# Altium footprint library XHCLB_22.11.30.PcbLib: 90 footprints (part 1 of 6)
Each footprint in its own frame and in the unit in brackets; x right, y up, seen from the top. Pads: shape width x height; smd on the part's side, far side on the other; paste and mask are expansions set on the pad; w line width, h text height; cw(c..) or ccw(c..) is an arc to the next point about the centre after c.
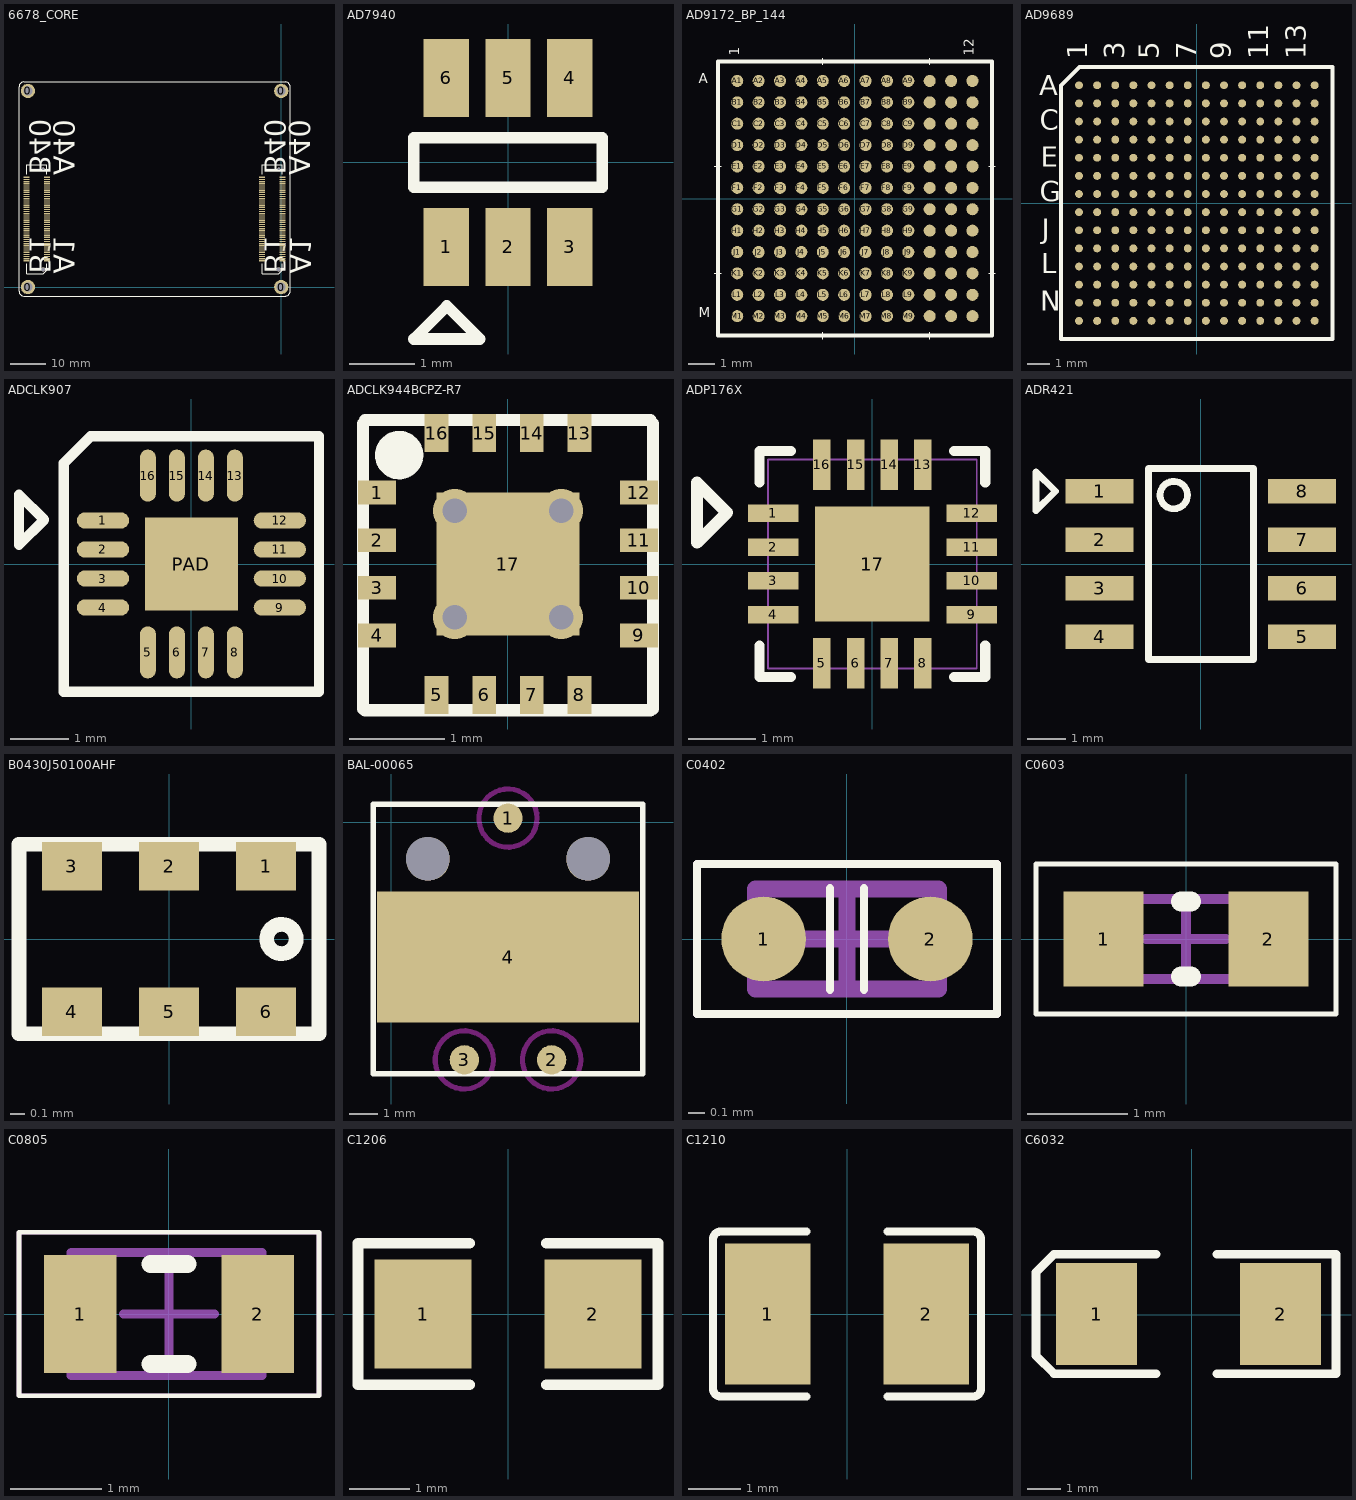
[diagram p0: the footprints below, top view; thin cyan lines are the x and y axes]

## 6678_CORE [mm]
pads (168):
  round 4 hole 2.5: 0(-71,55) 0(-71,0) 0(0,0) 0(0,55)
  rect 1.7x0.35 smd: A1_1(-65.65,7.365) A1_2(-65.65,7.965) A1_3(-65.65,8.565) A1_4(-65.65,9.165) A1_5(-65.65,9.765) A1_6(-65.65,10.365) A1_7(-65.65,10.965) A1_8(-65.65,11.565) A1_9(-65.65,12.165) A1_10(-65.65,12.765) A1_11(-65.65,13.365) A1_12(-65.65,13.965) A1_13(-65.65,14.565) A1_14(-65.65,15.165) A1_15(-65.65,15.765) A1_16(-65.65,16.365) A1_17(-65.65,16.965) A1_18(-65.65,17.565) A1_19(-65.65,18.165) A1_20(-65.65,18.765) A1_21(-65.65,19.365) A1_22(-65.65,19.965) A1_23(-65.65,20.565) A1_24(-65.65,21.165) A1_25(-65.65,21.765) A1_26(-65.65,22.365) A1_27(-65.65,22.965) A1_28(-65.65,23.565) A1_29(-65.65,24.165) A1_30(-65.65,24.765) A1_31(-65.65,25.365) A1_32(-65.65,25.965) A1_33(-65.65,26.565) A1_34(-65.65,27.165) A1_35(-65.65,27.765) A1_36(-65.65,28.365) A1_37(-65.65,28.965) A1_38(-65.65,29.565) A1_39(-65.65,30.165) A1_40(-65.65,30.765) A2_1(0.35,7.365) A2_2(0.35,7.965) A2_3(0.35,8.565) A2_4(0.35,9.165) A2_5(0.35,9.765) A2_6(0.35,10.365) A2_7(0.35,10.965) A2_8(0.35,11.565) A2_9(0.35,12.165) A2_10(0.35,12.765) A2_11(0.35,13.365) A2_12(0.35,13.965) A2_13(0.35,14.565) A2_14(0.35,15.165) A2_15(0.35,15.765) A2_16(0.35,16.365) A2_17(0.35,16.965) A2_18(0.35,17.565) A2_19(0.35,18.165) A2_20(0.35,18.765) A2_21(0.35,19.365) A2_22(0.35,19.965) A2_23(0.35,20.565) A2_24(0.35,21.165) A2_25(0.35,21.765) A2_26(0.35,22.365) A2_27(0.35,22.965) A2_28(0.35,23.565) A2_29(0.35,24.165) A2_30(0.35,24.765) A2_31(0.35,25.365) A2_32(0.35,25.965) A2_33(0.35,26.565) A2_34(0.35,27.165) A2_35(0.35,27.765) A2_36(0.35,28.365) A2_37(0.35,28.965) A2_38(0.35,29.565) A2_39(0.35,30.165) A2_40(0.35,30.765) B1_1(-71.35,7.365) B1_2(-71.35,7.965) B1_3(-71.35,8.565) B1_4(-71.35,9.165) B1_5(-71.35,9.765) B1_6(-71.35,10.365) B1_7(-71.35,10.965) B1_8(-71.35,11.565) B1_9(-71.35,12.165) B1_10(-71.35,12.765) B1_11(-71.35,13.365) B1_12(-71.35,13.965) B1_13(-71.35,14.565) B1_14(-71.35,15.165) B1_15(-71.35,15.765) B1_16(-71.35,16.365) B1_17(-71.35,16.965) B1_18(-71.35,17.565) B1_19(-71.35,18.165) B1_20(-71.35,18.765) B1_21(-71.35,19.365) B1_22(-71.35,19.965) B1_23(-71.35,20.565) B1_24(-71.35,21.165) B1_25(-71.35,21.765) B1_26(-71.35,22.365) B1_27(-71.35,22.965) B1_28(-71.35,23.565) B1_29(-71.35,24.165) B1_30(-71.35,24.765) B1_31(-71.35,25.365) B1_32(-71.35,25.965) B1_33(-71.35,26.565) B1_34(-71.35,27.165) B1_35(-71.35,27.765) B1_36(-71.35,28.365) B1_37(-71.35,28.965) B1_38(-71.35,29.565) B1_39(-71.35,30.165) B1_40(-71.35,30.765) B2_1(-5.35,7.365) B2_2(-5.35,7.965) B2_3(-5.35,8.565) B2_4(-5.35,9.165) B2_5(-5.35,9.765) B2_6(-5.35,10.365) B2_7(-5.35,10.965) B2_8(-5.35,11.565) B2_9(-5.35,12.165) B2_10(-5.35,12.765) B2_11(-5.35,13.365) B2_12(-5.35,13.965) B2_13(-5.35,14.565) B2_14(-5.35,15.165) B2_15(-5.35,15.765) B2_16(-5.35,16.365) B2_17(-5.35,16.965) B2_18(-5.35,17.565) B2_19(-5.35,18.165) B2_20(-5.35,18.765) B2_21(-5.35,19.365) B2_22(-5.35,19.965) B2_23(-5.35,20.565) B2_24(-5.35,21.165) B2_25(-5.35,21.765) B2_26(-5.35,22.365) B2_27(-5.35,22.965) B2_28(-5.35,23.565) B2_29(-5.35,24.165) B2_30(-5.35,24.765) B2_31(-5.35,25.365) B2_32(-5.35,25.965) B2_33(-5.35,26.565) B2_34(-5.35,27.165) B2_35(-5.35,27.765) B2_36(-5.35,28.365) B2_37(-5.35,28.965) B2_38(-5.35,29.565) B2_39(-5.35,30.165) B2_40(-5.35,30.765)
  round 1.1 hole 1.1: ZH-C1(-66.7,4.965) ZH-C1(-0.7,4.965)
  round 0.7 hole 0.7: ZH-C2(-66.7,33.165) ZH-C2(-0.7,33.165)
Top Overlay:
  lines w0.254: -71.3,6.565 -71.3,3.765 -66.7,3.765 -65.7,4.765 -65.7,6.565 ; -71.3,31.565 -71.3,34.365 -65.7,34.365 -65.7,31.565 ; -5.3,6.565 -5.3,3.765 -0.7,3.765 0.3,4.765 0.3,6.565 ; -5.3,31.565 -5.3,34.365 0.3,34.365 0.3,31.565 ; -73.5,-1.23 ccw(c-72.23,-1.23) -72.23,-2.5 1.23,-2.5 ccw(c1.23,-1.23) 2.5,-1.23 2.5,56.23 ccw(c1.23,56.23) 1.23,57.5 -72.23,57.5 ccw(c-72.23,56.23) -73.5,56.23 -73.5,55.521 -73.5,-1.23
  text "A40" at 0.319,31.393 h10
  text "B40" at -6.513,31.513 h10
  text "A1" at -65.7,3.765 h10
  text "B1" at -72.513,3.774 h10
  text "B40" at -72.513,31.513 h10
  text "A40" at -65.682,31.393 h10
  text "B1" at -6.513,3.774 h10
  text "A1" at 0.6,3.765 h10

## AD7940 [mm]
pads (6):
  rect 0.7x1.2 smd: 1(-0.95,-1.3) 2(0,-1.3) 3(0.95,-1.3) 4(0.95,1.3) 5(0,1.3) 6(-0.95,1.3)
Top Overlay:
  lines w0.178: -1.45,-0.381 -1.45,0.381 1.45,0.381 1.45,-0.381 -1.45,-0.381 ; -1.448,-2.718 -0.432,-2.718 -0.94,-2.21 -1.448,-2.718

## AD9172_BP_144 [mm]
pads (144):
  round 0.45 smd: A1(-4.4,4.4) A2(-3.6,4.4) A3(-2.8,4.4) A4(-2,4.4) A5(-1.2,4.4) A6(-0.4,4.4) A7(0.4,4.4) A8(1.2,4.4) A9(2,4.4) A10(2.8,4.4) A11(3.6,4.4) A12(4.4,4.4) B1(-4.4,3.6) B2(-3.6,3.6) B3(-2.8,3.6) B4(-2,3.6) B5(-1.2,3.6) B6(-0.4,3.6) B7(0.4,3.6) B8(1.2,3.6) B9(2,3.6) B10(2.8,3.6) B11(3.6,3.6) B12(4.4,3.6) C1(-4.4,2.8) C2(-3.6,2.8) C3(-2.8,2.8) C4(-2,2.8) C5(-1.2,2.8) C6(-0.4,2.8) C7(0.4,2.8) C8(1.2,2.8) C9(2,2.8) C10(2.8,2.8) C11(3.6,2.8) C12(4.4,2.8) D1(-4.4,2) D2(-3.6,2) D3(-2.8,2) D4(-2,2) D5(-1.2,2) D6(-0.4,2) D7(0.4,2) D8(1.2,2) D9(2,2) D10(2.8,2) D11(3.6,2) D12(4.4,2) E1(-4.4,1.2) E2(-3.6,1.2) E3(-2.8,1.2) E4(-2,1.2) E5(-1.2,1.2) E6(-0.4,1.2) E7(0.4,1.2) E8(1.2,1.2) E9(2,1.2) E10(2.8,1.2) E11(3.6,1.2) E12(4.4,1.2) F1(-4.4,0.4) F2(-3.6,0.4) F3(-2.8,0.4) F4(-2,0.4) F5(-1.2,0.4) F6(-0.4,0.4) F7(0.4,0.4) F8(1.2,0.4) F9(2,0.4) F10(2.8,0.4) F11(3.6,0.4) F12(4.4,0.4) G1(-4.4,-0.4) G2(-3.6,-0.4) G3(-2.8,-0.4) G4(-2,-0.4) G5(-1.2,-0.4) G6(-0.4,-0.4) G7(0.4,-0.4) G8(1.2,-0.4) G9(2,-0.4) G10(2.8,-0.4) G11(3.6,-0.4) G12(4.4,-0.4) H1(-4.4,-1.2) H2(-3.6,-1.2) H3(-2.8,-1.2) H4(-2,-1.2) H5(-1.2,-1.2) H6(-0.4,-1.2) H7(0.4,-1.2) H8(1.2,-1.2) H9(2,-1.2) H10(2.8,-1.2) H11(3.6,-1.2) H12(4.4,-1.2) J1(-4.4,-2) J2(-3.6,-2) J3(-2.8,-2) J4(-2,-2) J5(-1.2,-2) J6(-0.4,-2) J7(0.4,-2) J8(1.2,-2) J9(2,-2) J10(2.8,-2) J11(3.6,-2) J12(4.4,-2) K1(-4.4,-2.8) K2(-3.6,-2.8) K3(-2.8,-2.8) K4(-2,-2.8) K5(-1.2,-2.8) K6(-0.4,-2.8) K7(0.4,-2.8) K8(1.2,-2.8) K9(2,-2.8) K10(2.8,-2.8) K11(3.6,-2.8) K12(4.4,-2.8) L1(-4.4,-3.6) L2(-3.6,-3.6) L3(-2.8,-3.6) L4(-2,-3.6) L5(-1.2,-3.6) L6(-0.4,-3.6) L7(0.4,-3.6) L8(1.2,-3.6) L9(2,-3.6) L10(2.8,-3.6) L11(3.6,-3.6) L12(4.4,-3.6) M1(-4.4,-4.4) M2(-3.6,-4.4) M3(-2.8,-4.4) M4(-2,-4.4) M5(-1.2,-4.4) M6(-0.4,-4.4) M7(0.4,-4.4) M8(1.2,-4.4) M9(2,-4.4) M10(2.8,-4.4) M11(3.6,-4.4) M12(4.4,-4.4)
Top Overlay:
  lines w0.025: -5.254,-2.8 -5,-2.8 ; -5.254,1.2 -5,1.2 ; -1.2,-5.254 -1.2,-5 ; -1.2,5 -1.2,5.254 ; 2.8,-5.254 2.8,-5 ; 2.8,5 2.8,5.254 ; 5,-2.8 5.254,-2.8 ; 5,1.2 5.254,1.2
  lines w0.152: -5.127,-5.127 -5.127,5.127 5.127,5.127 5.127,-5.127 -5.127,-5.127
  text "12" at 4.572,5.334 h0.64
  text "1" at -4.191,5.334 h0.64
  text "M" at -5.842,-4.572 h0.64
  text "A" at -5.842,4.191 h0.64

## AD9689 [mm]
pads (196):
  round 0.35 smd: A1(-5.2,5.2) A2(-4.4,5.2) A3(-3.6,5.2) A4(-2.8,5.2) A5(-2,5.2) A6(-1.2,5.2) A7(-0.4,5.2) A8(0.4,5.2) A9(1.2,5.2) A10(2,5.2) A11(2.8,5.2) A12(3.6,5.2) A13(4.4,5.2) A14(5.2,5.2) B1(-5.2,4.4) B2(-4.4,4.4) B3(-3.6,4.4) B4(-2.8,4.4) B5(-2,4.4) B6(-1.2,4.4) B7(-0.4,4.4) B8(0.4,4.4) B9(1.2,4.4) B10(2,4.4) B11(2.8,4.4) B12(3.6,4.4) B13(4.4,4.4) B14(5.2,4.4) C1(-5.2,3.6) C2(-4.4,3.6) C3(-3.6,3.6) C4(-2.8,3.6) C5(-2,3.6) C6(-1.2,3.6) C7(-0.4,3.6) C8(0.4,3.6) C9(1.2,3.6) C10(2,3.6) C11(2.8,3.6) C12(3.6,3.6) C13(4.4,3.6) C14(5.2,3.6) D1(-5.2,2.8) D2(-4.4,2.8) D3(-3.6,2.8) D4(-2.8,2.8) D5(-2,2.8) D6(-1.2,2.8) D7(-0.4,2.8) D8(0.4,2.8) D9(1.2,2.8) D10(2,2.8) D11(2.8,2.8) D12(3.6,2.8) D13(4.4,2.8) D14(5.2,2.8) E1(-5.2,2) E2(-4.4,2) E3(-3.6,2) E4(-2.8,2) E5(-2,2) E6(-1.2,2) E7(-0.4,2) E8(0.4,2) E9(1.2,2) E10(2,2) E11(2.8,2) E12(3.6,2) E13(4.4,2) E14(5.2,2) F1(-5.2,1.2) F2(-4.4,1.2) F3(-3.6,1.2) F4(-2.8,1.2) F5(-2,1.2) F6(-1.2,1.2) F7(-0.4,1.2) F8(0.4,1.2) F9(1.2,1.2) F10(2,1.2) F11(2.8,1.2) F12(3.6,1.2) F13(4.4,1.2) F14(5.2,1.2) G1(-5.2,0.4) G2(-4.4,0.4) G3(-3.6,0.4) G4(-2.8,0.4) G5(-2,0.4) G6(-1.2,0.4) G7(-0.4,0.4) G8(0.4,0.4) G9(1.2,0.4) G10(2,0.4) G11(2.8,0.4) G12(3.6,0.4) G13(4.4,0.4) G14(5.2,0.4) H1(-5.2,-0.4) H2(-4.4,-0.4) H3(-3.6,-0.4) H4(-2.8,-0.4) H5(-2,-0.4) H6(-1.2,-0.4) H7(-0.4,-0.4) H8(0.4,-0.4) H9(1.2,-0.4) H10(2,-0.4) H11(2.8,-0.4) H12(3.6,-0.4) H13(4.4,-0.4) H14(5.2,-0.4) J1(-5.2,-1.2) J2(-4.4,-1.2) J3(-3.6,-1.2) J4(-2.8,-1.2) J5(-2,-1.2) J6(-1.2,-1.2) J7(-0.4,-1.2) J8(0.4,-1.2) J9(1.2,-1.2) J10(2,-1.2) J11(2.8,-1.2) J12(3.6,-1.2) J13(4.4,-1.2) J14(5.2,-1.2) K1(-5.2,-2) K2(-4.4,-2) K3(-3.6,-2) K4(-2.8,-2) K5(-2,-2) K6(-1.2,-2) K7(-0.4,-2) K8(0.4,-2) K9(1.2,-2) K10(2,-2) K11(2.8,-2) K12(3.6,-2) K13(4.4,-2) K14(5.2,-2) L1(-5.2,-2.8) L2(-4.4,-2.8) L3(-3.6,-2.8) L4(-2.8,-2.8) L5(-2,-2.8) L6(-1.2,-2.8) L7(-0.4,-2.8) L8(0.4,-2.8) L9(1.2,-2.8) L10(2,-2.8) L11(2.8,-2.8) L12(3.6,-2.8) L13(4.4,-2.8) L14(5.2,-2.8) M1(-5.2,-3.6) M2(-4.4,-3.6) M3(-3.6,-3.6) M4(-2.8,-3.6) M5(-2,-3.6) M6(-1.2,-3.6) M7(-0.4,-3.6) M8(0.4,-3.6) M9(1.2,-3.6) M10(2,-3.6) M11(2.8,-3.6) M12(3.6,-3.6) M13(4.4,-3.6) M14(5.2,-3.6) N1(-5.2,-4.4) N2(-4.4,-4.4) N3(-3.6,-4.4) N4(-2.8,-4.4) N5(-2,-4.4) N6(-1.2,-4.4) N7(-0.4,-4.4) N8(0.4,-4.4) N9(1.2,-4.4) N10(2,-4.4) N11(2.8,-4.4) N12(3.6,-4.4) N13(4.4,-4.4) N14(5.2,-4.4) P1(-5.2,-5.2) P2(-4.4,-5.2) P3(-3.6,-5.2) P4(-2.8,-5.2) P5(-2,-5.2) P6(-1.2,-5.2) P7(-0.4,-5.2) P8(0.4,-5.2) P9(1.2,-5.2) P10(2,-5.2) P11(2.8,-5.2) P12(3.6,-5.2) P13(4.4,-5.2) P14(5.2,-5.2)
Top Overlay:
  lines w0.178: -6,-6 6,-6 6,6 -5.156,6 -5.182,6 -6,5.182 -6,-6
  text "5" at -1.671,6.353 h0.89
  text "7" at -0.02,6.353 h0.89
  text "9" at 1.504,6.353 h0.89
  text "11" at 3.155,6.353 h0.89
  text "13" at 4.806,6.353 h0.89
  text "3" at -3.195,6.353 h0.89
  text "N" at -6.915,-4.756 h0.89
  text "L" at -6.876,-3.105 h0.89
  text "G" at -6.934,0.07 h0.89
  text "E" at -6.895,1.594 h0.89
  text "C" at -6.934,3.245 h0.89
  text "A" at -6.953,4.769 h0.89
  text "J" at -6.837,-1.58 h0.89
  text "1" at -4.846,6.353 h0.89

## ADCLK907 [mm]
pads (17):
  oval 0.9x0.28 smd: 1(-1.524,0.75) 2(-1.524,0.25) 3(-1.524,-0.25) 4(-1.524,-0.75) 9(1.524,-0.75) 10(1.524,-0.25) 11(1.524,0.25) 12(1.524,0.75)
  oval 0.28x0.9 smd: 5(-0.75,-1.524) 6(-0.25,-1.524) 7(0.25,-1.524) 8(0.75,-1.524) 13(0.75,1.524) 14(0.25,1.524) 15(-0.25,1.524) 16(-0.75,1.524)
  rect 1.6x1.6 smd: PAD(0,0)
Top Overlay:
  lines w0.178: -2.972,0.33 -2.54,0.762 -2.972,1.194 -2.972,0.33 ; -2.2,-2.2 2.2,-2.2 2.2,2.2 -1.737,2.2 -2.159,1.778 -2.2,1.737 -2.2,-2.2

## ADCLK944BCPZ-R7 [mm]
pads (17):
  rect 0.4x0.25 smd: 1(-1.375,0.75) 2(-1.375,0.25) 3(-1.375,-0.25) 4(-1.375,-0.75) 9(1.375,-0.75) 10(1.375,-0.25) 11(1.375,0.25) 12(1.375,0.75)
  rect 0.25x0.4 smd: 5(-0.75,-1.375) 6(-0.25,-1.375) 7(0.25,-1.375) 8(0.75,-1.375) 13(0.75,1.375) 14(0.25,1.375) 15(-0.25,1.375) 16(-0.75,1.375)
  rect 1.5x1.5 smd: 17(0,0)
via -0.559,0.559 diameter 0.457 hole 0.254
via 0.559,0.559 diameter 0.457 hole 0.254
via 0.559,-0.559 diameter 0.457 hole 0.254
via -0.559,-0.559 diameter 0.457 hole 0.254
Top Overlay:
  circle w0.254: c-1.143,1.143 r0.127
  lines w0.127: -1.524,-1.524 -1.524,1.476 ; -1.502,-1.536 1.498,-1.536 ; -1.502,1.512 1.498,1.512 ; 1.524,-1.524 1.524,1.476

## ADP176X [mm]
pads (17):
  rect 0.75x0.26 smd paste+0: 1(-1.475,0.75) 2(-1.475,0.25) 3(-1.475,-0.25) 4(-1.475,-0.75) 9(1.475,-0.75) 10(1.475,-0.25) 11(1.475,0.25) 12(1.475,0.75)
  rect 0.26x0.75 smd paste+0: 5(-0.75,-1.475) 6(-0.25,-1.475) 7(0.25,-1.475) 8(0.75,-1.475) 13(0.75,1.475) 14(0.25,1.475) 15(-0.25,1.475) 16(-0.75,1.475)
  rect 1.7x1.7 smd: 17(0,0)
Top Overlay:
  lines w0.152: -1.677,-1.213 -1.677,-1.677 -1.213,-1.677 ; -1.677,1.213 -1.677,1.677 -1.213,1.677 ; 1.213,-1.677 1.677,-1.677 1.677,-1.213 ; 1.213,1.677 1.677,1.677 1.677,1.213
  lines w0.178: -2.603,0.318 -2.603,1.206 -2.159,0.762 -2.603,0.318
Mechanical 13:
  lines w0.025: -1.55,-1.55 -1.55,1.55 1.55,1.55 1.55,-1.55 -1.55,-1.55 ; -1.55,-0.9 -1.55,-0.6 -1.55,-0.9 ; -1.55,-0.4 -1.55,-0.1 -1.55,-0.4 ; -1.55,0.1 -1.55,0.4 -1.55,0.1 ; -1.55,0.6 -1.55,0.9 -1.55,0.6 ; -0.9,-1.55 -0.6,-1.55 -0.9,-1.55 ; -0.9,1.55 -0.6,1.55 -0.9,1.55 ; -0.4,-1.55 -0.1,-1.55 -0.4,-1.55 ; -0.4,1.55 -0.1,1.55 -0.4,1.55 ; 0.1,-1.55 0.4,-1.55 0.1,-1.55 ; 0.1,1.55 0.4,1.55 0.1,1.55 ; 0.6,-1.55 0.9,-1.55 0.6,-1.55 ; 0.6,1.55 0.9,1.55 0.6,1.55 ; 1.55,-0.9 1.55,-0.6 1.55,-0.9 ; 1.55,-0.4 1.55,-0.1 1.55,-0.4 ; 1.55,0.1 1.55,0.4 1.55,0.1 ; 1.55,0.6 1.55,0.9 1.55,0.6
  text "*" at -1.005,0.591 h0.89

## ADR421 [mm]
pads (8):
  rect 1.778x0.635 smd: 1(-2.65,1.905) 2(-2.65,0.635) 3(-2.65,-0.635) 4(-2.65,-1.905) 5(2.65,-1.905) 6(2.65,-0.635) 7(2.65,0.635) 8(2.65,1.905)
Top Overlay:
  circle w0.178: c-0.709,1.805 r0.359
  lines w0.178: -4.318,1.397 -4.318,2.413 -3.81,1.905 -4.318,1.397 ; -1.372,-2.5 1.377,-2.5 1.377,2.5 -1.372,2.5 -1.372,-2.5

## B0430J50100AHF [mm]
pads (6):
  rect 0.41x0.33 smd: 1(0.66,0.495) 2(0,0.495) 3(-0.66,0.495) 4(-0.66,-0.495) 5(0,-0.495) 6(0.66,-0.495)
Top Overlay:
  circle w0.1: c0.765,0 r0.1
  lines w0.1: -1.02,-0.645 1.02,-0.645 1.02,0.645 -1.02,0.645 -1.02,-0.645

## BAL-00065 [mil]
pads (6):
  round 40.2 smd mask+4: 1(160,6) 2(220,-326) 3(100,-326)
  rect 360x180 smd mask+4: 4(160,-185)
  round 60 hole 60 unplated mask+4: ""(50,-50) ""(270,-50)
Top Overlay:
  lines w7: -25,-345 -25,25 345,25 345,-345 -25,-345
Keep-Out Layer:
  circle w7: c220,-326 r40
  circle w7: c100,-326 r40
  circle w7: c160,6 r40
Drill Drawing:
  lines w7: 0,-320 0,0 320,0 320,-320 0,-320

## C0402 [mil]
height 11.81
pads (2):
  round 20 smd: 1(-19.68,0) 2(19.68,0)
Top Overlay:
  lines w1.97: -4,-12 -4,0 -4,12 ; 4,-12 4,0 4,12 ; -35.43,-17.72 -35.43,17.72 35.43,17.72 35.43,-17.72 -35.43,-17.72
Mechanical 13:
  lines w3.94: -21.65,-11.81 21.65,-11.81 21.65,11.81 -21.65,11.81 -21.65,-11.81
Mechanical 15:
  lines w1.97: -35.43,-17.72 -35.43,17.72 35.43,17.72 35.43,-17.72 -35.43,-17.72
  lines w3.94: -9.84,0 9.84,0 ; 0,-9.84 0,9.84
3D body "C 0402.STEP": height 20.68, standoff 0.21, extent -19.68,-10.23 19.69,10.24

## C0603 [mm]
height 1.2
pads (2):
  rect 0.8x0.95 smd: 1(-0.825,0) 2(0.825,0)
Top Overlay:
  lines w0.05: -1.5,-0.75 1.5,-0.75 1.5,0.75 -1.5,0.75 -1.5,-0.75
  lines w0.2: -0.05,-0.375 0.05,-0.375 ; -0.05,0.375 0.05,0.375
Mechanical 13:
  lines w0.1: -0.8,-0.4 0.8,-0.4 0.8,0.4 -0.8,0.4 -0.8,-0.4
Mechanical 15:
  lines w0.1: -0.4,0 0.4,0 ; 0,-0.4 0,0.4
3D body "C 0603.STEP": height 0.81, standoff -0.01, extent -0.8,-0.41 0.8,0.41

## C0805 [mm]
height 0.5
pads (2):
  rect 0.8x1.3 smd: 1(-0.975,0) 2(0.975,0)
Top Overlay:
  lines w0.05: -1.65,-0.9 1.65,-0.9 1.65,0.9 -1.65,0.9 -1.65,-0.9
  lines w0.2: -0.2,-0.55 0.2,-0.55 ; -0.2,0.55 0.2,0.55
Mechanical 13:
  lines w0.1: -1.075,-0.675 -1.075,0.675 1.025,0.675 1.025,-0.675 -1.075,-0.675
Mechanical 15:
  lines w0.05: -1.65,-0.9 1.65,-0.9 1.65,0.9 -1.65,0.9 -1.65,-0.9
  lines w0.1: -0.5,0 0.5,0 ; 0,-0.5 0,0.5
3D body "C 0805.STEP": height 0.51, standoff -0.01, extent -1,-0.61 1,0.61

## C1206 [mm]
pads (2):
  rect 1.6x1.8 smd: 1(-1.4,0) 2(1.4,0)
Top Overlay:
  lines w0.178: -0.635,-1.168 -2.476,-1.168 -2.476,1.168 -0.635,1.168 ; 0.635,-1.168 2.476,-1.168 2.476,1.168 0.635,1.168
3D body "C 1206.STEP": height 1.21, standoff -0.01, extent -1.6,-0.81 1.6,0.81

## C1210 [mm]
pads (2):
  rect 1.635x2.7 smd: 1(-1.517,0) 2(1.517,0)
Top Overlay:
  lines w0.152: -0.776,-1.579 -2.411,-1.579 cw(c-2.411,-1.426) -2.564,-1.426 -2.564,1.426 cw(c-2.411,1.426) -2.411,1.579 -0.776,1.579 ; 0.776,-1.579 2.411,-1.579 ccw(c2.411,-1.426) 2.564,-1.426 2.564,1.426 ccw(c2.411,1.426) 2.411,1.579 0.776,1.579
Top Paste:
  region: -0.7,-1.25 -0.7,-0.559 -0.8,-0.459 -1.156,-0.459 -1.256,-0.359 -1.256,0.359 -1.156,0.459 -0.8,0.459 -0.7,0.559 -0.7,1.25 -0.8,1.35 -2.235,1.35 -2.335,1.25 -2.335,-1.25 -2.235,-1.35 -0.8,-1.35
  region: 0.7,-1.25 0.7,-0.559 0.8,-0.459 1.156,-0.459 1.256,-0.359 1.256,0.359 1.156,0.459 0.8,0.459 0.7,0.559 0.7,1.25 0.8,1.35 2.235,1.35 2.335,1.25 2.335,-1.25 2.235,-1.35 0.8,-1.35

## C6032 [mil]
height 98.43
pads (2):
  rect 95x120 smd: 1(-112,1) 2(104,1)
Top Overlay:
  lines w10: -42,-69 -156,-69 -162,-69 -183,-48 -183,50 -163,70 -162,71 -42,71 ; 29,-69 169,-69 169,71 29,71
3D body "TAJ-C.STEP": height 102.36, standoff 0, extent -121.11,-61.99 115.11,63.99